# Altium footprint library C0603 - KEMET.PcbLib: 1 footprints
Each footprint in its own frame and in the unit in brackets; x right, y up, seen from the top. Pads: shape width x height; smd on the part's side, far side on the other; paste and mask are expansions set on the pad; w line width, h text height; cw(c..) or ccw(c..) is an arc to the next point about the centre after c.
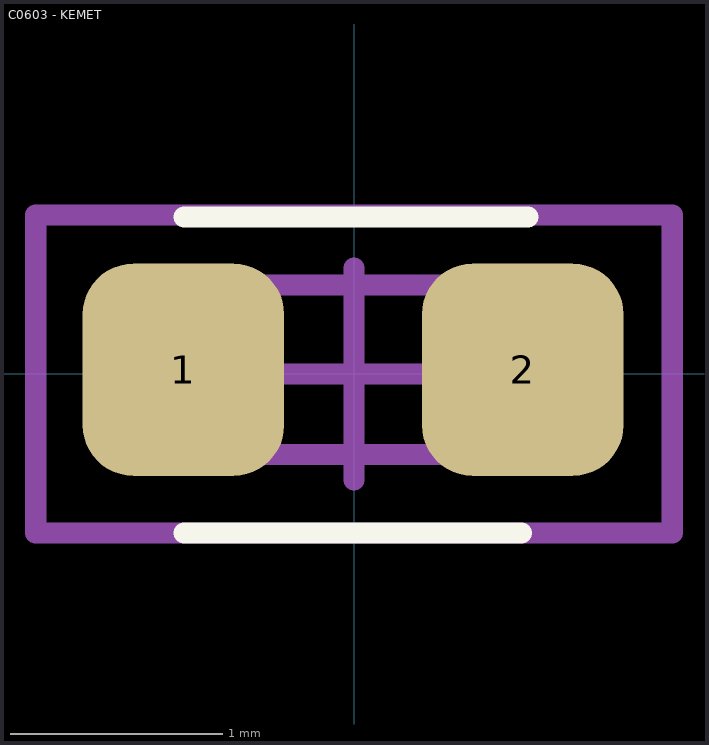
[diagram p0: the footprint, top view; thin cyan lines are the x and y axes]

## C0603 - KEMET [mm] "Chip Capacitor, 2-Leads, Body 1,60x0,80mm, IPC Medium Density"
height 0.95
pads (2):
  rrect50% 0.95x1 smd: 1(-0.805,0.02) 2(0.795,0.02)
Top Overlay:
  lines w0.1: -0.8,-0.75 0.79,-0.75 ; -0.8,0.74 0.82,0.74
Mechanical 13:
  lines w0.1: -0.805,-0.38 -0.805,0.42 0.795,0.42 0.795,-0.38 -0.805,-0.38
Mechanical 15:
  lines w0.1: -0.5,0 0.5,0 ; 0,-0.5 0,0.5 ; -1.5,-0.75 -1.5,0.75 1.5,0.75 1.5,-0.75 -1.5,-0.75
Top Designator:
  text ".Designator" at -1.175,-0.058 h0.25
3D body "C0603X473K1RACTU.stp": height 0.87, standoff 0, extent -0.875,-0.46 0.875,0.49